# Altium footprint library PowerPAK SO8 Dual.PcbLib: 1 footprints
Each footprint in its own frame and in the unit in brackets; x right, y up, seen from the top. Pads: shape width x height; smd on the part's side, far side on the other; paste and mask are expansions set on the pad; w line width, h text height; cw(c..) or ccw(c..) is an arc to the next point about the centre after c.
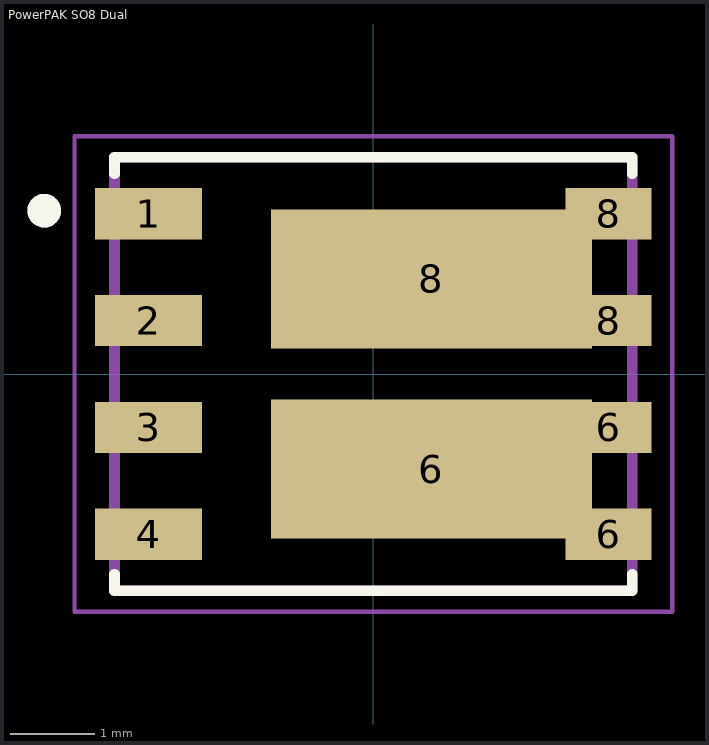
[diagram p0: the footprint, top view; thin cyan lines are the x and y axes]

## PowerPAK SO8 Dual [mm]
pads (10):
  rect 1.27x0.61 smd: 1(-2.67,1.905) 2(-2.67,0.635) 3(-2.67,-0.635) 4(-2.67,-1.905)
  rect 3.81x1.65 smd: 6(0.69,-1.13) 8(0.69,1.13)
  rect 1.02x0.61 smd: 6(2.795,-1.905) 6(2.795,-0.635) 8(2.795,0.635) 8(2.795,1.905)
Top Overlay:
  circle w0.2: c-3.91,1.94 r0.1
  lines w0.127: -3.075,-2.38 -3.075,-2.575 3.075,-2.575 3.075,-2.38 ; -3.075,2.38 -3.075,2.575 3.075,2.575 3.075,2.38
Mechanical 13:
  circle w0.2: c-3.91,1.94 r0.1
  lines w0.127: -3.075,-2.575 -3.075,2.575 3.075,2.575 3.075,-2.575 -3.075,-2.575
Mechanical 15:
  lines w0.05: -3.55,-2.825 -3.55,2.825 3.55,2.825 3.55,-2.825 -3.55,-2.825
3D body "SI7540DP-T1-GE3.STEP": height 1.12, standoff 0, extent -3.075,-2.581 3.072,2.575